# Altium integrated library my_Integrated_Library.IntLib: 2 symbols
Pins are listed as number, name and electrical type; pins without a type are passive.

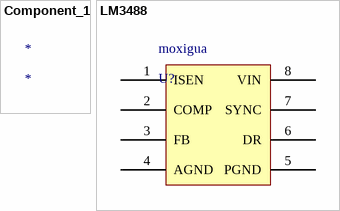
[diagram p0: symbols Component_1 to LM3488]

## Component_1
designator *

## LM3488
designator moxigua, comment U?
footprint LM3488 (Boost升压芯片)
pins: 1 ISEN, 2 COMP, 3 FB, 4 AGND, 5 PGND, 6 DR, 7 SYNC, 8 VIN